# EAGLE library part LPC134*FBD64 (library nxp-arm)
32-bit ARM Cortex-M3 microcontroller; up to 64 kB flash; up to 12 kB SRAM; USB device; USART; EEPROM Source: http://www.nxp.com/documents/data_sheet/LPC1315_16_17_45_46_47.pdf
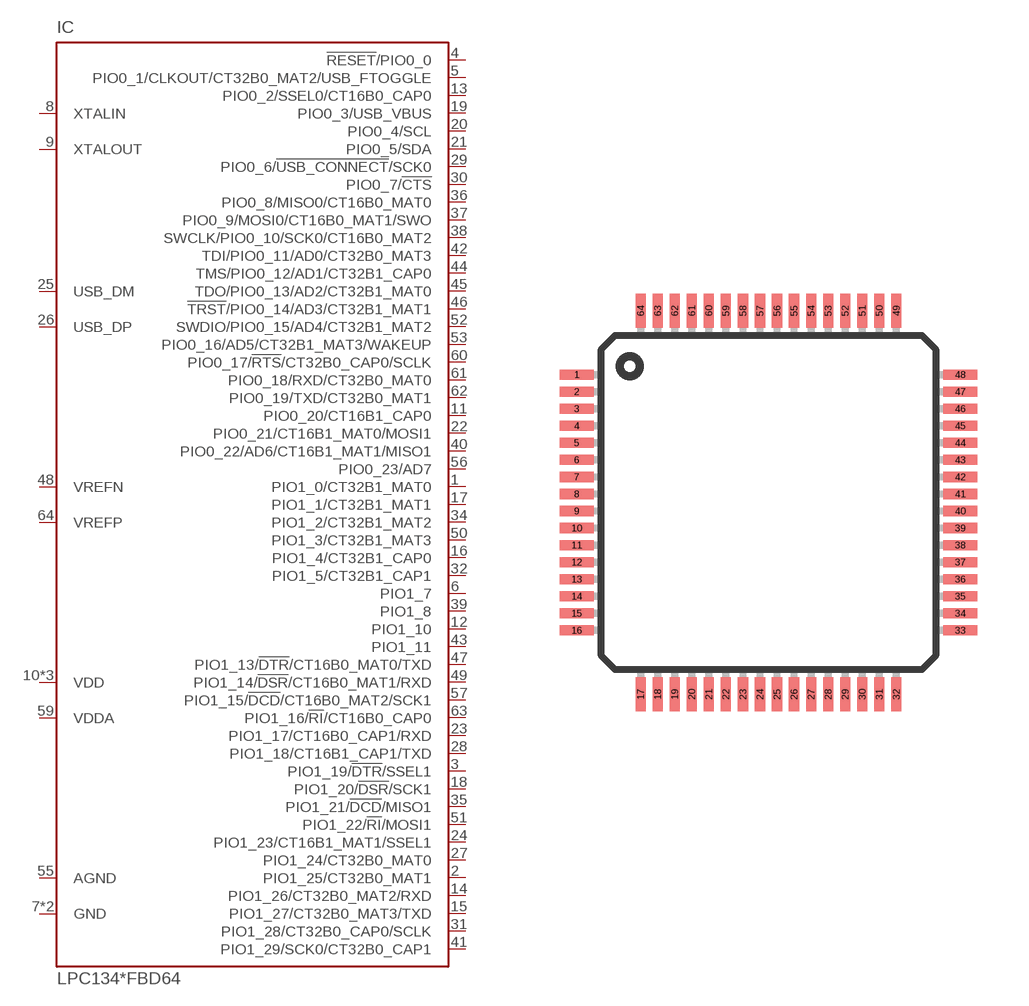
[diagram p0: symbol with the pads of LQFP64; footprint LQFP64]

Designator prefix IC

## LPC1347FBD64  [LQFP64]
1  PIO1_0/CT32B1_MAT0
2  PIO1_25/CT32B0_MAT1
3  PIO1_19/!DTR!/SSEL1
4  !RESET!/PIO0_0
5  PIO0_1/CLKOUT/CT32B0_MAT2/USB_FTOGGLE
6  PIO1_7
7  GND  pwr
8  XTALIN  in
9  XTALOUT  out
10  VDD  pwr
11  PIO0_20/CT16B1_CAP0
12  PIO1_10
13  PIO0_2/SSEL0/CT16B0_CAP0
14  PIO1_26/CT32B0_MAT2/RXD
15  PIO1_27/CT32B0_MAT3/TXD
16  PIO1_4/CT32B1_CAP0
17  PIO1_1/CT32B1_MAT1
18  PIO1_20/!DSR!/SCK1
19  PIO0_3/USB_VBUS
20  PIO0_4/SCL
21  PIO0_5/SDA
22  PIO0_21/CT16B1_MAT0/MOSI1
23  PIO1_17/CT16B0_CAP1/RXD
24  PIO1_23/CT16B1_MAT1/SSEL1
25  USB_DM
26  USB_DP
27  PIO1_24/CT32B0_MAT0
28  PIO1_18/CT16B1_CAP1/TXD
29  PIO0_6/!USB_CONNECT!/SCK0
30  PIO0_7/!CTS!
31  PIO1_28/CT32B0_CAP0/SCLK
32  PIO1_5/CT32B1_CAP1
33  VDD  pwr
34  PIO1_2/CT32B1_MAT2
35  PIO1_21/!DCD!/MISO1
36  PIO0_8/MISO0/CT16B0_MAT0
37  PIO0_9/MOSI0/CT16B0_MAT1/SWO
38  SWCLK/PIO0_10/SCK0/CT16B0_MAT2
39  PIO1_8
40  PIO0_22/AD6/CT16B1_MAT1/MISO1
41  PIO1_29/SCK0/CT32B0_CAP1
42  TDI/PIO0_11/AD0/CT32B0_MAT3
43  PIO1_11
44  TMS/PIO0_12/AD1/CT32B1_CAP0
45  TDO/PIO0_13/AD2/CT32B1_MAT0
46  !TRST!/PIO0_14/AD3/CT32B1_MAT1
47  PIO1_13/!DTR!/CT16B0_MAT0/TXD
48  VREFN  in
49  PIO1_14/!DSR!/CT16B0_MAT1/RXD
50  PIO1_3/CT32B1_MAT3
51  PIO1_22/!RI!/MOSI1
52  SWDIO/PIO0_15/AD4/CT32B1_MAT2
53  PIO0_16/AD5/CT32B1_MAT3/WAKEUP
54  GND  pwr
55  AGND  pwr
56  PIO0_23/AD7
57  PIO1_15/!DCD!/CT16B0_MAT2/SCK1
58  VDD  pwr
59  VDDA  pwr
60  PIO0_17/!RTS!/CT32B0_CAP0/SCLK
61  PIO0_18/RXD/CT32B0_MAT0
62  PIO0_19/TXD/CT32B0_MAT1
63  PIO1_16/!RI!/CT16B0_CAP0
64  VREFP  in

## Footprint LQFP64 (pad centres in mm)
smd 1 x 0.3: 1 -5.625,3.75; 2 -5.625,3.25; 3 -5.625,2.75; 4 -5.625,2.25; 5 -5.625,1.75; 6 -5.625,1.25; 7 -5.625,0.75; 8 -5.625,0.25; 9 -5.625,-0.25; 10 -5.625,-0.75; 11 -5.625,-1.25; 12 -5.625,-1.75; 13 -5.625,-2.25; 14 -5.625,-2.75; 15 -5.625,-3.25; 16 -5.625,-3.75; 33 5.625,-3.75; 34 5.625,-3.25; 35 5.625,-2.75; 36 5.625,-2.25; 37 5.625,-1.75; 38 5.625,-1.25; 39 5.625,-0.75; 40 5.625,-0.25; 41 5.625,0.25; 42 5.625,0.75; 43 5.625,1.25; 44 5.625,1.75; 45 5.625,2.25; 46 5.625,2.75; 47 5.625,3.25; 48 5.625,3.75
smd 0.3 x 1: 17 -3.75,-5.625; 18 -3.25,-5.625; 19 -2.75,-5.625; 20 -2.25,-5.625; 21 -1.75,-5.625; 22 -1.25,-5.625; 23 -0.75,-5.625; 24 -0.25,-5.625; 25 0.25,-5.625; 26 0.75,-5.625; 27 1.25,-5.625; 28 1.75,-5.625; 29 2.25,-5.625; 30 2.75,-5.625; 31 3.25,-5.625; 32 3.75,-5.625; 49 3.75,5.625; 50 3.25,5.625; 51 2.75,5.625; 52 2.25,5.625; 53 1.75,5.625; 54 1.25,5.625; 55 0.75,5.625; 56 0.25,5.625; 57 -0.25,5.625; 58 -0.75,5.625; 59 -1.25,5.625; 60 -1.75,5.625; 61 -2.25,5.625; 62 -2.75,5.625; 63 -3.25,5.625; 64 -3.75,5.625